# Altium footprint library BAT-HLD-001-THM.PcbLib: 1 footprints
Each footprint in its own frame and in the unit in brackets; x right, y up, seen from the top. Pads: shape width x height; smd on the part's side, far side on the other; paste and mask are expansions set on the pad; w line width, h text height; cw(c..) or ccw(c..) is an arc to the next point about the centre after c.
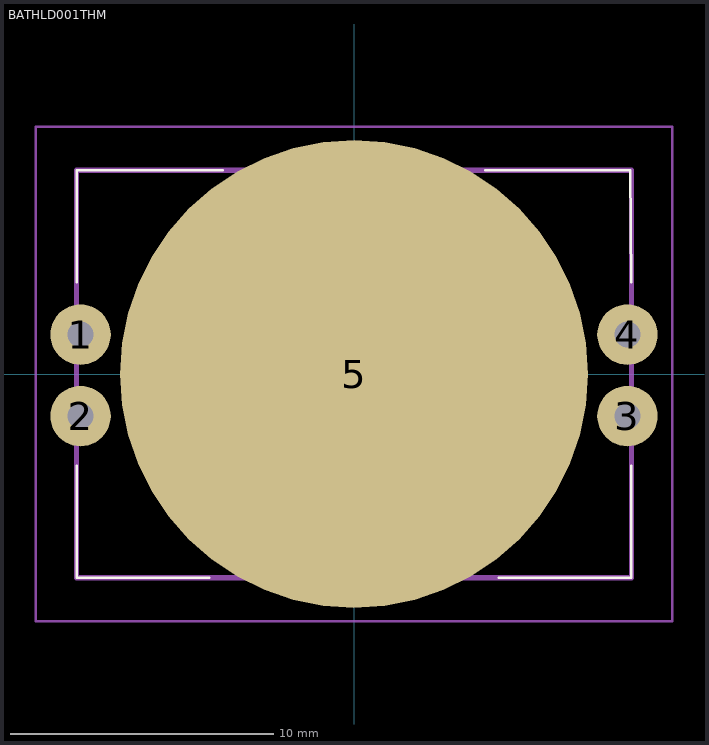
[diagram p0: the footprint, top view; thin cyan lines are the x and y axes]

## BATHLD001THM [mm]
pads (5):
  round 2.3 hole 1: 1(-10.4,1.5) 2(-10.4,-1.6) 3(10.4,-1.6) 4(10.4,1.5)
  round 17.8 smd: 5(0,0)
Top Overlay:
  lines w0.1: -10.55,-3.5 -10.55,-7.75 -5.5,-7.75 ; -10.55,3.5 -10.55,7.75 -5,7.75 ; 5,7.75 10.505,7.75 10.55,3.5 ; 5.5,-7.75 10.55,-7.75 10.55,-3.5
Mechanical 13:
  lines w0.2: -10.55,-7.75 -10.55,7.75 10.55,7.75 10.55,-7.75 -10.55,-7.75
Mechanical 15:
  lines w0.1: -12.1,-9.4 -12.1,9.4 12.1,9.4 12.1,-9.4 -12.1,-9.4